# Altium schematic symbol library 1035.SchLib: 1 symbol
Pins are listed as number, name and electrical type; pins without a type are passive.

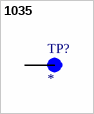
[diagram p0: symbol 1035]

## 1035
designator TP?
Test Point PC Slotted THM Height .335 Brass/Tin | Keystone Electronics 1035; MP: 1035; SnapEDA_Link: https://www.snapeda.com/parts/1035/Keystone/view-part/?ref=snap; Package: None; Value: *; MF: Keystone Electronics; Check_prices: https://www.snapeda.com/parts/1035/Keystone/view-part/?ref=eda
footprint KEYSTONE_1035
pins: TP